# EAGLE library part IN-2 (library 0-nixies-russian)
IN-2 Miniature Nixie Tube 19mm Dia, Top View Strike voltage: <200V Standby voltage: <100V Current: 1.5mA
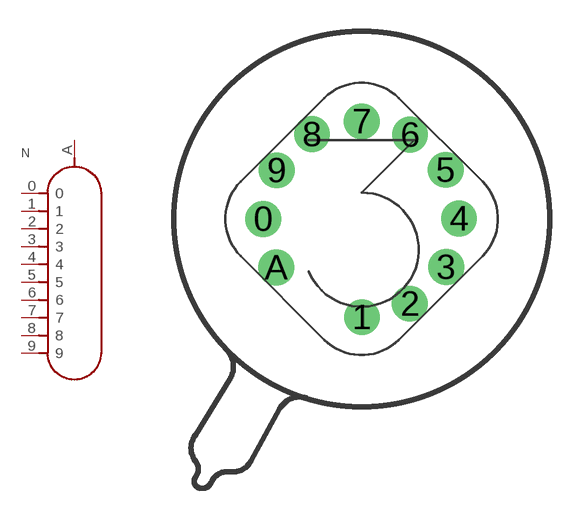
[diagram p3: symbol with the pads of IN-2; footprint IN-2]

Designator prefix N

## IN-2  [IN-2]
0  0
1  1
2  2
3  3
4  4
5  5
6  6
7  7
8  8
9  9
A  A

## Footprint IN-2 (pad centres in mm)
Miniature top-view, thick leads
drill 1.15: 0 -4.745,0; 1 0.02,-4.735; 2 2.326,-4.089; 3 4.07,-2.32; 4 4.695,0.02; 5 4.052,2.363; 6 2.33,4.057; 7 0,4.705; 8 -2.388,4.081; 9 -4.082,2.343; A -4.11,-2.34